# Altium integrated library 751xx.IntLib: 25 symbols
Pins are listed as number, name and electrical type; pins without a type are passive.

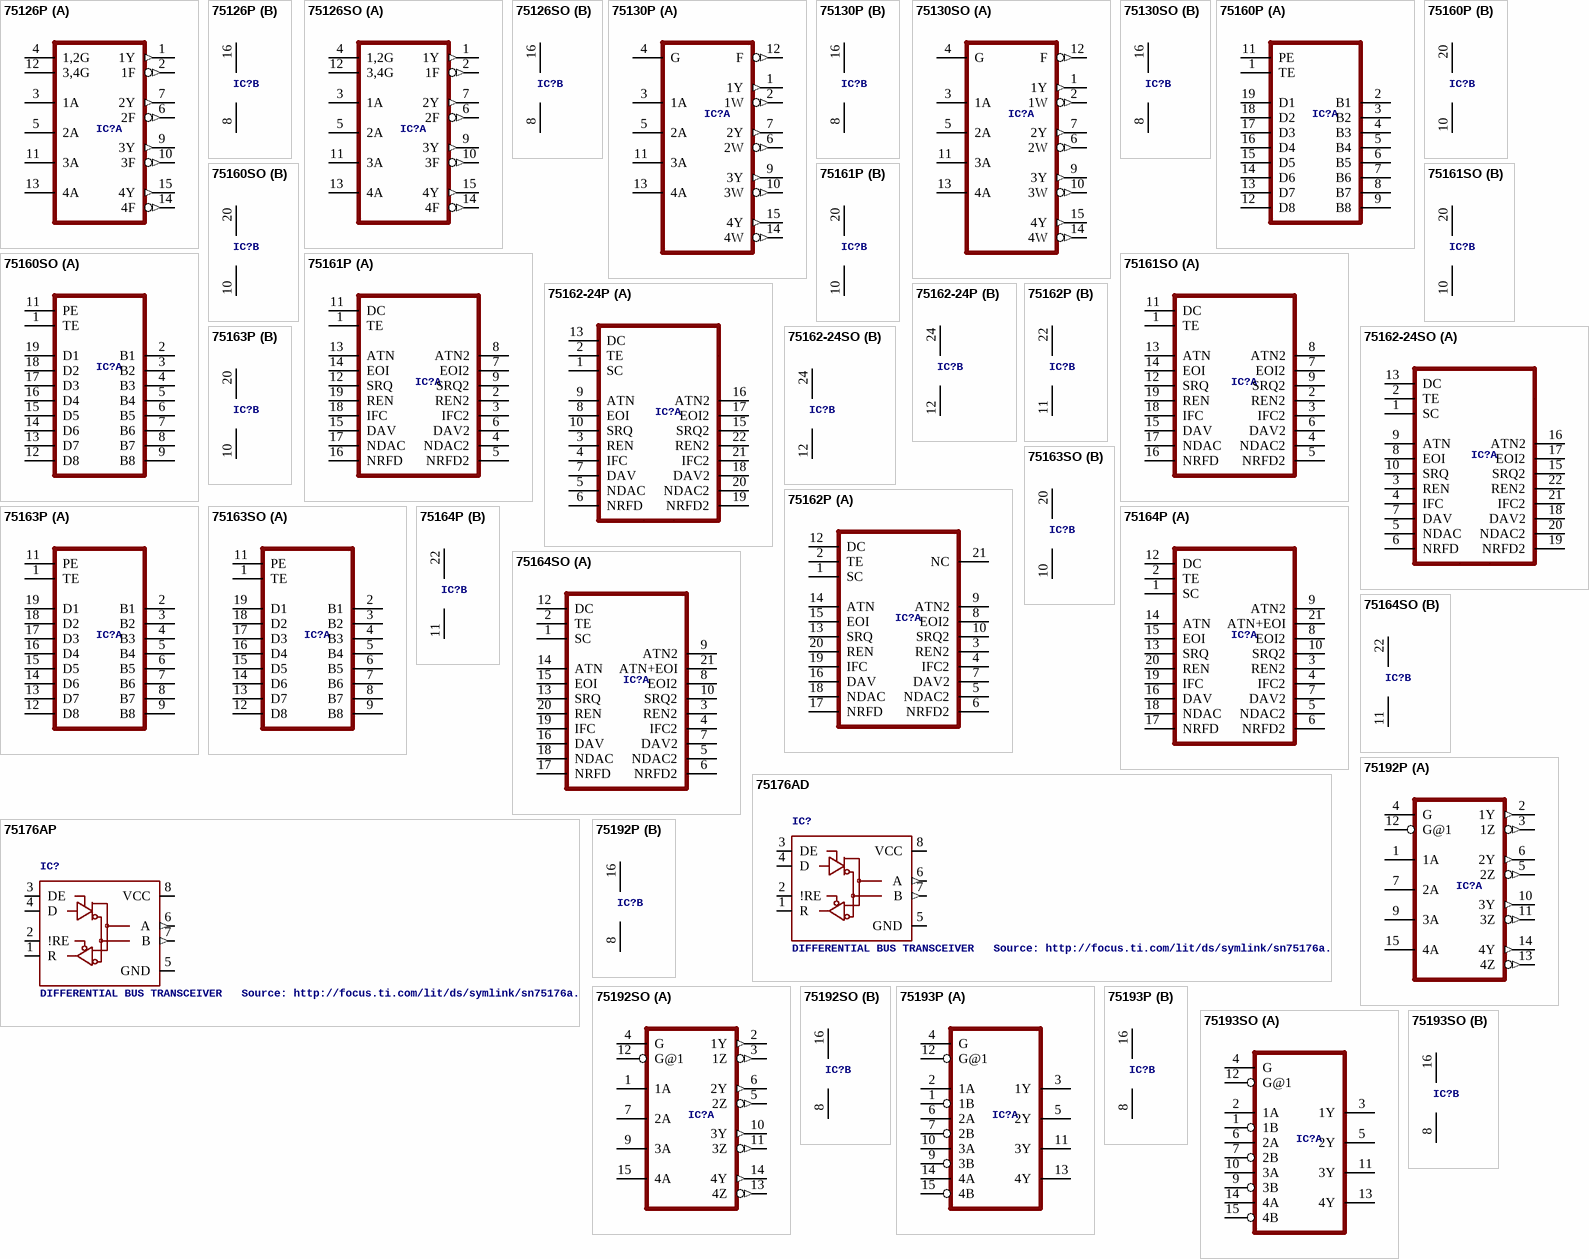
[diagram p0: symbols 75126P to 75193SO]

## 75126P
designator IC?, comment 75xxx DEVICE  (value not drawn)
footprint DIL16
part A pins: 1 1Y (out), 2 1F (out), 3 1A, 4 1,2G, 5 2A, 6 2F (out), 7 2Y (out), 9 3Y (out), 10 3F (out), 11 3A, 12 3,4G, 13 4A, 14 4F (out), 15 4Y (out)
part B pins: 8 GND (power), 16 VCC (power)

## 75126SO
designator IC?, comment 75xxx DEVICE  (value not drawn)
footprint SO16
part A pins: 1 1Y (out), 2 1F (out), 3 1A, 4 1,2G, 5 2A, 6 2F (out), 7 2Y (out), 9 3Y (out), 10 3F (out), 11 3A, 12 3,4G, 13 4A, 14 4F (out), 15 4Y (out)
part B pins: 8 GND (power), 16 VCC (power)

## 75130P
designator IC?, comment 75xxx DEVICE  (value not drawn)
footprint DIL16
part A pins: 1 1Y (out), 2 1W (out), 3 1A, 4 G, 5 2A, 6 2W (out), 7 2Y (out), 9 3Y (out), 10 3W (out), 11 3A, 12 F (out), 13 4A, 14 4W (out), 15 4Y (out)
part B pins: 8 GND (power), 16 VCC (power)

## 75130SO
designator IC?, comment 75xxx DEVICE  (value not drawn)
footprint SO16
part A pins: 1 1Y (out), 2 1W (out), 3 1A, 4 G, 5 2A, 6 2W (out), 7 2Y (out), 9 3Y (out), 10 3W (out), 11 3A, 12 F (out), 13 4A, 14 4W (out), 15 4Y (out)
part B pins: 8 GND (power), 16 VCC (power)

## 75160P
designator IC?, comment 75xxx DEVICE  (value not drawn)
footprint DIL20
part A pins: 1 TE, 2 B1, 3 B2, 4 B3, 5 B4, 6 B5, 7 B6, 8 B7, 9 B8, 11 PE, 12 D8, 13 D7, 14 D6, 15 D5, 16 D4, 17 D3, 18 D2, 19 D1
part B pins: 10 GND (power), 20 VCC (power)

## 75160SO
designator IC?, comment 75xxx DEVICE  (value not drawn)
footprint SO20L
part A pins: 1 TE, 2 B1, 3 B2, 4 B3, 5 B4, 6 B5, 7 B6, 8 B7, 9 B8, 11 PE, 12 D8, 13 D7, 14 D6, 15 D5, 16 D4, 17 D3, 18 D2, 19 D1
part B pins: 10 GND (power), 20 VCC (power)

## 75161P
designator IC?, comment 75xxx DEVICE  (value not drawn)
footprint DIL20
part A pins: 1 TE, 2 REN2, 3 IFC2, 4 NDAC2, 5 NRFD2, 6 DAV2, 7 EOI2, 8 ATN2, 9 SRQ2, 11 DC, 12 SRQ, 13 ATN, 14 EOI, 15 DAV, 16 NRFD, 17 NDAC, 18 IFC, 19 REN
part B pins: 10 GND (power), 20 VCC (power)

## 75161SO
designator IC?, comment 75xxx DEVICE  (value not drawn)
footprint SO20L
part A pins: 1 TE, 2 REN2, 3 IFC2, 4 NDAC2, 5 NRFD2, 6 DAV2, 7 EOI2, 8 ATN2, 9 SRQ2, 11 DC, 12 SRQ, 13 ATN, 14 EOI, 15 DAV, 16 NRFD, 17 NDAC, 18 IFC, 19 REN
part B pins: 10 GND (power), 20 VCC (power)

## 75162-24P
designator IC?, comment 75xxx DEVICE  (value not drawn)
footprint DIL24-3
part A pins: 1 SC, 2 TE, 3 REN, 4 IFC, 5 NDAC, 6 NRFD, 7 DAV, 8 EOI, 9 ATN, 10 SRQ, 11 NC11, 13 DC, 14 NC14, 15 SRQ2, 16 ATN2, 17 EOI2, 18 DAV2, 19 NRFD2, 20 NDAC2, 21 IFC2, 22 REN2, 23 NC
part B pins: 12 GND (power), 24 VCC (power)

## 75162-24SO
designator IC?, comment 75xxx DEVICE  (value not drawn)
footprint SO24L
part A pins: 1 SC, 2 TE, 3 REN, 4 IFC, 5 NDAC, 6 NRFD, 7 DAV, 8 EOI, 9 ATN, 10 SRQ, 11 NC11, 13 DC, 14 NC14, 15 SRQ2, 16 ATN2, 17 EOI2, 18 DAV2, 19 NRFD2, 20 NDAC2, 21 IFC2, 22 REN2, 23 NC
part B pins: 12 GND (power), 24 VCC (power)

## 75162P
designator IC?, comment 75xxx DEVICE  (value not drawn)
footprint DIL22-3
part A pins: 1 SC, 2 TE, 3 REN2, 4 IFC2, 5 NDAC2, 6 NRFD2, 7 DAV2, 8 EOI2, 9 ATN2, 10 SRQ2, 12 DC, 13 SRQ, 14 ATN, 15 EOI, 16 DAV, 17 NRFD, 18 NDAC, 19 IFC, 20 REN, 21 NC
part B pins: 11 GND (power), 22 VCC (power)

## 75163P
designator IC?, comment 75xxx DEVICE  (value not drawn)
footprint DIL20
part A pins: 1 TE, 2 B1, 3 B2, 4 B3, 5 B4, 6 B5, 7 B6, 8 B7, 9 B8, 11 PE, 12 D8, 13 D7, 14 D6, 15 D5, 16 D4, 17 D3, 18 D2, 19 D1
part B pins: 10 GND (power), 20 VCC (power)

## 75163SO
designator IC?, comment 75xxx DEVICE  (value not drawn)
footprint SO20L
part A pins: 1 TE, 2 B1, 3 B2, 4 B3, 5 B4, 6 B5, 7 B6, 8 B7, 9 B8, 11 PE, 12 D8, 13 D7, 14 D6, 15 D5, 16 D4, 17 D3, 18 D2, 19 D1
part B pins: 10 GND (power), 20 VCC (power)

## 75164P
designator IC?, comment 75xxx DEVICE  (value not drawn)
footprint DIL22-3
part A pins: 1 SC, 2 TE, 3 REN2, 4 IFC2, 5 NDAC2, 6 NRFD2, 7 DAV2, 8 EOI2, 9 ATN2, 10 SRQ2, 12 DC, 13 SRQ, 14 ATN, 15 EOI, 16 DAV, 17 NRFD, 18 NDAC, 19 IFC, 20 REN, 21 ATN+EOI
part B pins: 11 GND (power), 22 VCC (power)

## 75164SO
designator IC?, comment 75xxx DEVICE  (value not drawn)
footprint SO24L
part A pins: 1 SC, 2 TE, 3 REN2, 4 IFC2, 5 NDAC2, 6 NRFD2, 7 DAV2, 8 EOI2, 9 ATN2, 10 SRQ2, 12 DC, 13 SRQ, 14 ATN, 15 EOI, 16 DAV, 17 NRFD, 18 NDAC, 19 IFC, 20 REN, 21 ATN+EOI
part B pins: 11 GND (power), 22 VCC (power)

## 75176AD
designator IC?, comment DIFFERENTIAL BUS TRANSCEIVER   Source: http://focus.ti.com/lit/ds/symlink/sn75176a.pdf
footprint D_R-PDSO-G8
pins: 1 R, 2 !RE, 3 DE, 4 D, 5 GND (power), 6 A (out), 7 B (out), 8 VCC (power)

## 75176AP
designator IC?, comment DIFFERENTIAL BUS TRANSCEIVER   Source: http://focus.ti.com/lit/ds/symlink/sn75176a.pdf
footprint DIL08
pins: 1 R, 2 !RE, 3 DE, 4 D, 5 GND (power), 6 A (out), 7 B (out), 8 VCC (power)

## 75192P
designator IC?, comment 75xxx DEVICE  (value not drawn)
footprint DIL16
part A pins: 1 1A, 2 1Y (out), 3 1Z (out), 4 G, 5 2Z (out), 6 2Y (out), 7 2A, 9 3A, 10 3Y (out), 11 3Z (out), 12 G@1, 13 4Z (out), 14 4Y (out), 15 4A
part B pins: 8 GND (power), 16 VCC (power)

## 75192SO
designator IC?, comment 75xxx DEVICE  (value not drawn)
footprint SO16
part A pins: 1 1A, 2 1Y (out), 3 1Z (out), 4 G, 5 2Z (out), 6 2Y (out), 7 2A, 9 3A, 10 3Y (out), 11 3Z (out), 12 G@1, 13 4Z (out), 14 4Y (out), 15 4A
part B pins: 8 GND (power), 16 VCC (power)

## 75193P
designator IC?, comment 75xxx DEVICE  (value not drawn)
footprint DIL16
part A pins: 1 1B, 2 1A, 3 1Y (hiz), 4 G, 5 2Y (hiz), 6 2A, 7 2B, 9 3B, 10 3A, 11 3Y (hiz), 12 G@1, 13 4Y (hiz), 14 4A, 15 4B
part B pins: 8 GND (power), 16 VCC (power)

## 75193SO
designator IC?, comment 75xxx DEVICE  (value not drawn)
footprint SO16
part A pins: 1 1B, 2 1A, 3 1Y (hiz), 4 G, 5 2Y (hiz), 6 2A, 7 2B, 9 3B, 10 3A, 11 3Y (hiz), 12 G@1, 13 4Y (hiz), 14 4A, 15 4B
part B pins: 8 GND (power), 16 VCC (power)

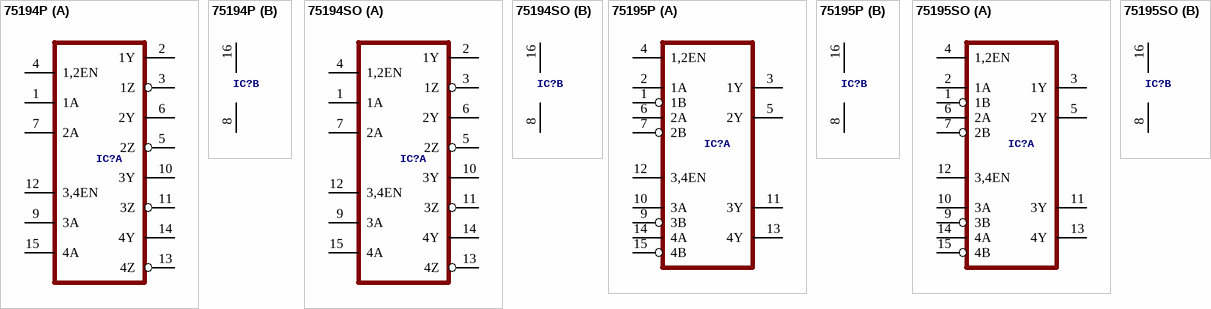
[diagram p1: symbols 75194P to 75195SO]

## 75194P
designator IC?, comment 75xxx DEVICE  (value not drawn)
footprint DIL16
part A pins: 1 1A, 2 1Y (hiz), 3 1Z (hiz), 4 1,2EN, 5 2Z (hiz), 6 2Y (hiz), 7 2A, 9 3A, 10 3Y (hiz), 11 3Z (hiz), 12 3,4EN, 13 4Z (hiz), 14 4Y (hiz), 15 4A
part B pins: 8 GND (power), 16 VCC (power)

## 75194SO
designator IC?, comment 75xxx DEVICE  (value not drawn)
footprint SO16
part A pins: 1 1A, 2 1Y (hiz), 3 1Z (hiz), 4 1,2EN, 5 2Z (hiz), 6 2Y (hiz), 7 2A, 9 3A, 10 3Y (hiz), 11 3Z (hiz), 12 3,4EN, 13 4Z (hiz), 14 4Y (hiz), 15 4A
part B pins: 8 GND (power), 16 VCC (power)

## 75195P
designator IC?, comment 75xxx DEVICE  (value not drawn)
footprint DIL16
part A pins: 1 1B, 2 1A, 3 1Y (hiz), 4 1,2EN, 5 2Y (hiz), 6 2A, 7 2B, 9 3B, 10 3A, 11 3Y (hiz), 12 3,4EN, 13 4Y (hiz), 14 4A, 15 4B
part B pins: 8 GND (power), 16 VCC (power)

## 75195SO
designator IC?, comment 75xxx DEVICE  (value not drawn)
footprint SO16
part A pins: 1 1B, 2 1A, 3 1Y (hiz), 4 1,2EN, 5 2Y (hiz), 6 2A, 7 2B, 9 3B, 10 3A, 11 3Y (hiz), 12 3,4EN, 13 4Y (hiz), 14 4A, 15 4B
part B pins: 8 GND (power), 16 VCC (power)